# Altium footprint library nfc_ant.PcbLib: 1 footprints
Each footprint in its own frame and in the unit in brackets; x right, y up, seen from the top. Pads: shape width x height; smd on the part's side, far side on the other; paste and mask are expansions set on the pad; w line width, h text height; cw(c..) or ccw(c..) is an arc to the next point about the centre after c.
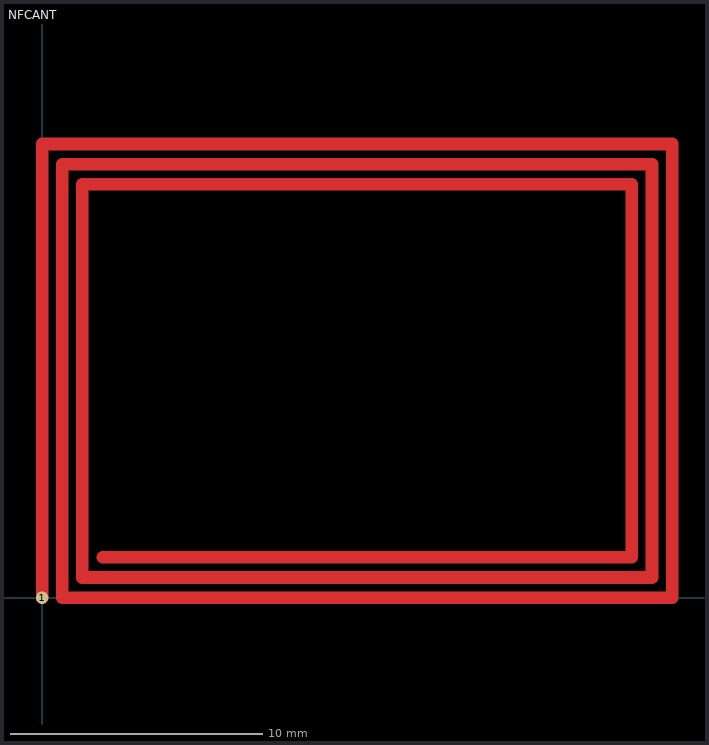
[diagram p0: the footprint, top view; thin cyan lines are the x and y axes]

## NFCANT [mm]
pads (1):
  round 0.5 / inner round 0 / far side round 0 all layers, no hole mask+0: 1(0,0)
Top Layer:
  lines w0.5: 0,0 0,18 25,18 25,0 0.8,0 0.8,17.2 24.2,17.2 24.2,0.8 1.6,0.8 1.6,16.4 23.4,16.4 23.4,1.6 2.4,1.6